# EAGLE library part LIGHTNING (library Apple_Lightning)
PIN HEADER
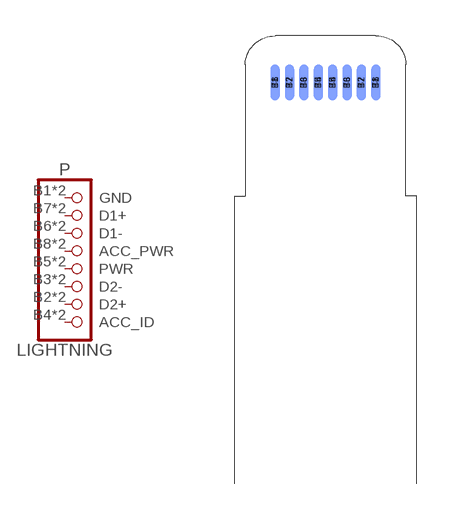
[diagram p0: symbol with the pads of LIGHTNING; footprint LIGHTNING]

Designator prefix P

## LIGHTNING-8PIN  [LIGHTNING]
B1  GND  pas
B2  D2+
B3  D2-
B4  ACC_ID
B5  PWR  pwr
B6  D1-
B7  D1+
B8  ACC_PWR  pwr
T1  GND  pas
T2  D1+
T3  D1-
T4  ACC_PWR  pwr
T5  PWR  pwr
T6  D2-
T7  D2+
T8  ACC_ID

## Footprint LIGHTNING (pad centres in mm)
smd 0.38 x 1.51 bottom: B1 -2.1,4.755; B2 -1.5,4.755; B3 -0.9,4.755; B4 -0.3,4.755; B5 0.3,4.755; B6 0.9,4.755; B7 1.5,4.755; B8 2.1,4.755
smd 0.38 x 1.51: T1 2.1,4.755; T2 1.5,4.755; T3 0.9,4.755; T4 0.3,4.755; T5 -0.3,4.755; T6 -0.9,4.755; T7 -1.5,4.755; T8 -2.1,4.755